# EAGLE library part A24001-006 (library con-omnetics)
CONNECTOR wire to board 1.27 mm (0.05") pitch header
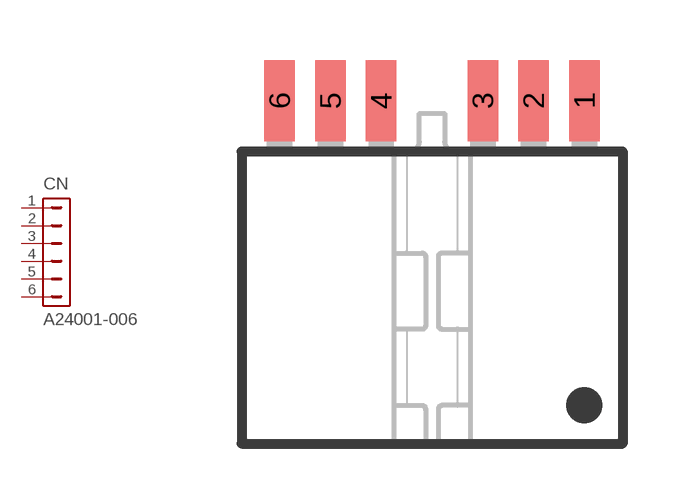
[diagram p10: symbol with the pads of A24001-006; footprint A24001-006]

Designator prefix CN

## A24001-006  [A24001-006]
1  1  pas
2  2  pas
3  3  pas
4  4  pas
5  5  pas
6  6  pas

## Footprint A24001-006 (pad centres in mm)
Connector SMD right angle, 6 pin
smd 0.762 x 2.032: 1 3.81,5.08; 2 2.54,5.08; 3 1.27,5.08; 4 -1.27,5.08; 5 -2.54,5.08; 6 -3.81,5.08